# EAGLE library part MC33926 (library scono)
https://www.digikey.com/product-detail/en/nxp-usa-inc/MC33926PNBR2/MC33926PNBR2CT-ND/3524219
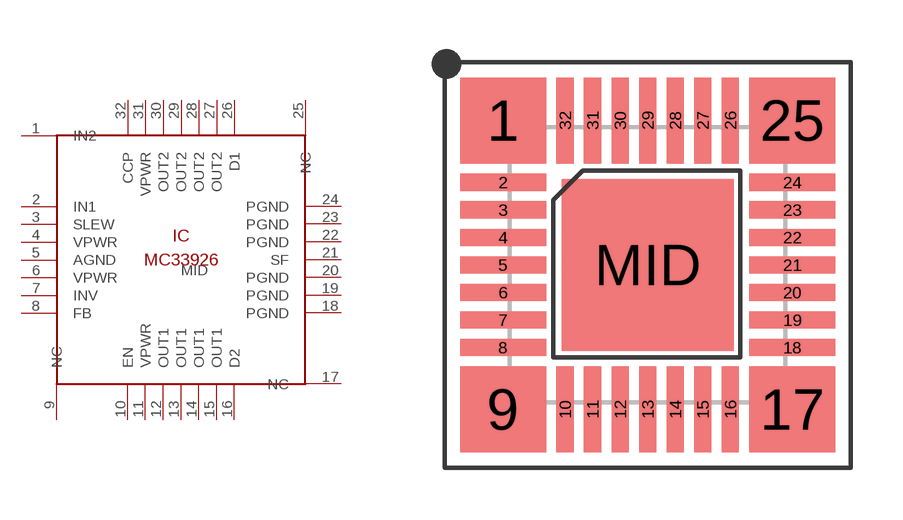
[diagram p22: symbol with the pads of PQFN-32; footprint PQFN-32]

Designator prefix IC

## MC33926  [PQFN-32]
1  IN2
2  IN1
3  SLEW
4  VPWR
5  AGND
6  VPWR
7  INV
8  FB
9  NC
10  EN
11  VPWR
12  OUT1
13  OUT1
14  OUT1
15  OUT1
16  D2
17  NC
18  PGND
19  PGND
20  PGND
21  SF
22  PGND
23  PGND
24  PGND
25  NC
26  D1
27  OUT2
28  OUT2
29  OUT2
30  OUT2
31  VPWR
32  CCP
MID  AGND

## Footprint PQFN-32 (pad centres in mm)
QFP32 shrink quad flat pack, square
smd 2.5 x 2.5: 1 -4.2,4.2; 9 -4.2,-4.2; 17 4.2,-4.2; 25 4.2,4.2
smd 2.5 x 0.5: 2 -4.2,2.4; 3 -4.2,1.6; 4 -4.2,0.8; 5 -4.2,0; 6 -4.2,-0.8; 7 -4.2,-1.6; 8 -4.2,-2.4; 18 4.2,-2.4; 19 4.2,-1.6; 20 4.2,-0.8; 21 4.2,0; 22 4.2,0.8; 23 4.2,1.6; 24 4.2,2.4
smd 0.5 x 2.5: 10 -2.4,-4.2; 11 -1.6,-4.2; 12 -0.8,-4.2; 13 0,-4.2; 14 0.8,-4.2; 15 1.6,-4.2; 16 2.4,-4.2; 26 2.4,4.2; 27 1.6,4.2; 28 0.8,4.2; 29 0,4.2; 30 -0.8,4.2; 31 -1.6,4.2; 32 -2.4,4.2
smd 5 x 5: MID 0,0